# Altium footprint library 282836-4.PcbLib: 1 footprints
Each footprint in its own frame and in the unit in brackets; x right, y up, seen from the top. Pads: shape width x height; smd on the part's side, far side on the other; paste and mask are expansions set on the pad; w line width, h text height; cw(c..) or ccw(c..) is an arc to the next point about the centre after c.
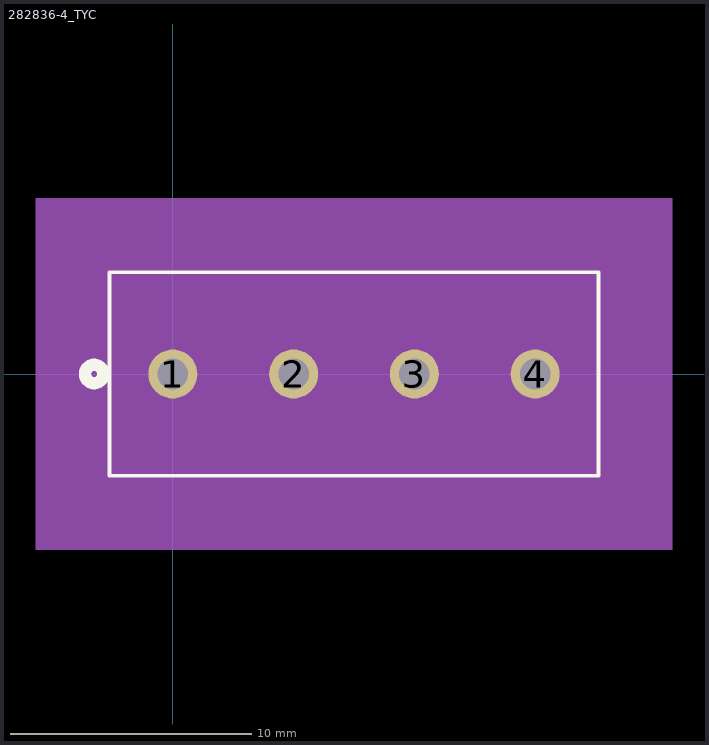
[diagram p0: the footprint, top view; thin cyan lines are the x and y axes]

## 282836-4_TYC [mil]
pads (4):
  round 80 hole 50 mask+0: 1(0,0) 2(196.85,0) 3(393.7,0) 4(590.55,0)
Top Overlay:
  circle w20: c-128.22,0 r15
  lines w6: -103.22,-166 693.78,-166 693.78,166 -103.22,166 -103.22,-166
Bottom Overlay:
  circle w20: c-128.22,0 r15
Mechanical 5:
  region: -223.22,286 813.78,286 813.78,-286 -223.22,-286
Mechanical 13:
  circle w20: c0,75 r15
  lines w1: -98.22,-161 688.78,-161 688.78,161 -98.22,161 -98.22,-161
Mechanical 15:
  region: 698.78,171 -108.22,171 -108.22,-171 698.78,-171
  lines w6: -108.22,-171 -108.22,171 698.78,171 698.78,-171 -108.22,-171
3D body: height 10, standoff 0, extent 0,0 10,10